# Altium footprint library FlexBMS_lib.pcblib: 25 footprints (part 1 of 2)
Each footprint in its own frame and in the unit in brackets; x right, y up, seen from the top. Pads: shape width x height; smd on the part's side, far side on the other; paste and mask are expansions set on the pad; w line width, h text height; cw(c..) or ccw(c..) is an arc to the next point about the centre after c.
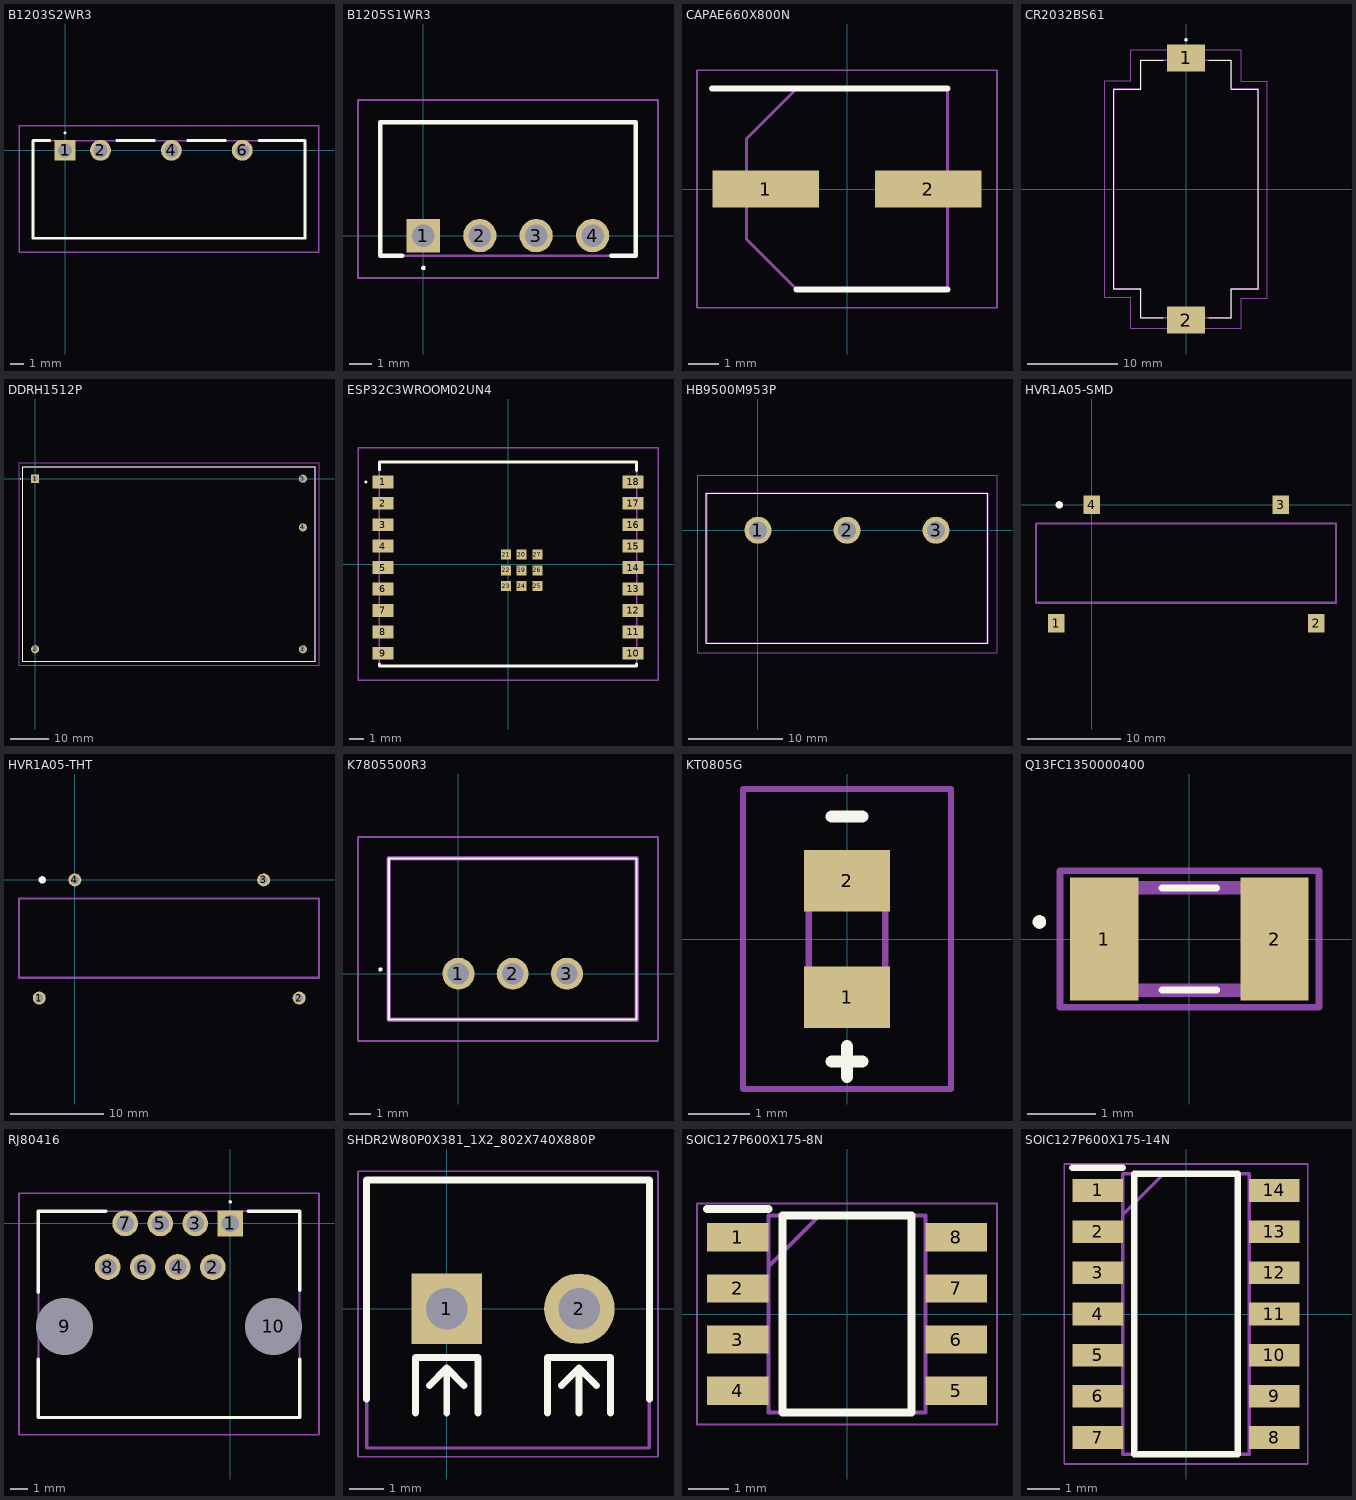
[diagram p0: the footprints below, top view; thin cyan lines are the x and y axes]

## B1203S2WR3 [mm]
pads (4):
  rect 1.5x1.5 hole 1: 1(0,0)
  round 1.5 hole 1: 2(2.54,0) 4(7.62,0) 6(12.7,0)
Top Overlay:
  lines w0.1: 0,1.2 cw(c0,1.25) 0,1.3 cw(c0,1.25) 0,1.2
  lines w0.2: -1.1,0.7 -2.3,0.7 -2.3,-6.3 17.2,-6.3 17.2,0.7 13.9,0.7 ; 3.7,0.7 6.4,0.7 ; 8.8,0.7 11.5,0.7
Mechanical 13:
  lines w0.1: -2.3,-6.3 -2.3,0.7 17.2,0.7 17.2,-6.3 -2.3,-6.3
Mechanical 15:
  lines w0.1: -3.3,-7.3 -3.3,1.75 18.2,1.75 18.2,-7.3 -3.3,-7.3
3D body "B1203S-2WR3.stp": height 10.35, standoff -5, extent -2.3,-6.3 17.2,0.7

## B1205S1WR3 [mm]
pads (4):
  rect 1.5x1.5 hole 1: 1(0,0)
  round 1.5 hole 1: 2(2.54,0) 3(5.08,0) 4(7.62,0)
Top Overlay:
  lines w0.1: 0,-1.5 ccw(c0,-1.45) 0,-1.4 ccw(c0,-1.45) 0,-1.5
  lines w0.2: -0.95,-0.9 -1.94,-0.9 -1.94,5.1 9.56,5.1 9.56,-0.9 8.45,-0.9
Mechanical 13:
  lines w0.1: -1.94,-0.9 9.56,-0.9 9.56,5.1 -1.94,5.1 -1.94,-0.9
Mechanical 15:
  lines w0.1: -2.94,-1.9 10.56,-1.9 10.56,6.1 -2.94,6.1 -2.94,-1.9
3D body "B1205S-1WR3.stp": height 10.35, standoff -5, extent -1.94,-0.9 9.56,5.1

## CAPAE660X800N [mm]
pads (2):
  rect 3.5x1.2 smd: 1(-2.67,0) 2(2.67,0)
Top Overlay:
  lines w0.2: -4.425,3.3 3.3,3.3 ; -1.65,-3.3 3.3,-3.3
Mechanical 13:
  lines w0.1: -3.3,-1.65 -3.3,1.65 -1.65,3.3 3.3,3.3 3.3,-3.3 -1.65,-3.3 -3.3,-1.65
Mechanical 15:
  lines w0.05: -4.925,-3.9 4.925,-3.9 4.925,3.9 -4.925,3.9 -4.925,-3.9
3D body "VEJ101M1ETR-0607.stp": height 8, standoff 0, extent -3.7,-3.4 3.7,3.4

## CR2032BS61 [mm]
pads (2):
  rect 4.2x3 smd: 1(0,14.5) 2(0,-14.5)
Top Overlay:
  lines w0.1: -2.54,-14.25 -5,-14.25 -5,-11.05 -5.08,-11.05 -8,-11.05 -8,11.05 -5,11.05 -5,14.25 -2.54,14.25 ; 2.54,-14.25 5,-14.25 5,-11.05 8,-11.05 8,11.05 5,11.05 5,14.25 2.54,14.25
  lines w0.2: 0,16.4 cw(c0,16.5) 0,16.6 cw(c0,16.5) 0,16.4
Mechanical 13:
  lines w0.2: -8,-11.05 -8,11.05 -5.08,11.05 -5,11.05 -5,14.25 5,14.25 5,11.05 8,11.05 8,-11.05 5,-11.05 5,-14.25 -5,-14.25 -5,-11.05 -8,-11.05
Mechanical 15:
  lines w0.1: -9,-12 -6.1,-12 -6.1,-15.4 5.5,-15.4 6.1,-15.4 6.1,-12.1 9,-12.1 9,11.9 6.1,11.9 6.1,15.4 5.9,15.4 -6.1,15.4 -6.1,12 -9,12 -9,-12
3D body "CR2032-BS-6-1.stp": height 5.5, standoff 0, extent -7.998,-15.653 8.002,15.647

## DDRH1512P [mm]
pads (5):
  rect 2.1x2.1 hole 1.4: 1(0,0)
  round 2.1 hole 1.4: 2(0,-44.45) 3(69.85,-44.45) 4(69.85,-12.7) 5(69.85,0)
Top Overlay:
  lines w0.1: -3.8,0 cw(c-3.75,0) -3.7,0 cw(c-3.75,0) -3.8,0
  lines w0.2: -3.175,-47.625 73.025,-47.625 73.025,3.175 -3.175,3.175 -3.175,-47.625
Mechanical 13:
  lines w0.1: -3.175,-47.625 73.025,-47.625 73.025,3.175 -3.175,3.175 -3.175,-47.625
Mechanical 15:
  lines w0.1: -4.175,-48.625 74.025,-48.625 74.025,4.175 -4.175,4.175 -4.175,-48.625
3D body "DDRH-15-12P.stp": height 25.13, standoff -5, extent -3.175,-47.625 73.025,3.175

## ESP32C3WROOM02UN4 [mm]
pads (27):
  rect 1.5x0.9 smd: 1(-8.75,5.75) 2(-8.75,4.25) 3(-8.75,2.75) 4(-8.75,1.25) 5(-8.75,-0.25) 6(-8.75,-1.75) 7(-8.75,-3.25) 8(-8.75,-4.75) 9(-8.75,-6.25) 10(8.75,-6.25) 11(8.75,-4.75) 12(8.75,-3.25) 13(8.75,-1.75) 14(8.75,-0.25) 15(8.75,1.25) 16(8.75,2.75) 17(8.75,4.25) 18(8.75,5.75)
  rect 0.7x0.7 smd: 19(0.96,-0.45) 20(0.96,0.65) 21(-0.14,0.65) 22(-0.14,-0.45) 23(-0.14,-1.55) 24(0.96,-1.55) 25(2.06,-1.55) 26(2.06,-0.45) 27(2.06,0.65)
Top Overlay:
  lines w0.1: -10,5.75 cw(c-9.95,5.75) -9.9,5.75 cw(c-9.95,5.75) -10,5.75
  lines w0.2: -9,-7 -9,-7.15 9,-7.15 9,-7 ; -9,6.6 -9,7.15 9,7.15 9,6.55
Mechanical 13:
  lines w0.1: -9,-7.15 -9,7.15 9,7.15 9,-7.15 -9,-7.15
Mechanical 15:
  lines w0.1: -10.5,-8.15 -10.5,8.15 10.5,8.15 10.5,-8.15 -10.5,-8.15
3D body "ESP32-C3-WROOM-02U-N4.stp": height 3.26, standoff 0, extent -9.005,-7.15 9.015,7.15

## HB9500M953P [mm]
pads (3):
  round 2.883 hole 1.92: 1(0,0) 2(9.5,0) 3(19,0)
Top Overlay:
  lines w0.1: -5.5,-12.05 24.5,-12.05 24.5,3.95 -5.5,3.95 -5.5,-12.05
Mechanical 13:
  lines w0.2: -5.5,-12.05 -5.5,3.95 24.5,3.95 24.5,-12.05 -5.5,-12.05
Mechanical 15:
  lines w0.1: -6.5,-13.05 25.5,-13.05 25.5,5.85 -6.5,5.85 -6.5,-13.05
3D body "HB9500M-9.5-3P.stp": height 13.3, standoff -5, extent -5.5,-12.05 24.5,3.95

## HVR1A05-SMD [mm]
pads (4):
  rect 1.8x2 smd: 1(-3.82,-12.7) 2(24.12,-12.7) 3(20.3,0) 4(0,0)
Top Overlay:
  circle w0.4: c-3.5,0 r0.2
Mechanical 1:
  lines w0.254: -6,-10.5 26.25,-10.5 26.25,-2 -6,-2 -6,-10.5
3D body: height 0.2, standoff 0, extent -0.82,-2.2 0.88,1.05
3D body: height 0.2, standoff 0, extent 19.48,-2.2 21.18,1.05
3D body: height 0.2, standoff 0, extent 23.24,-13.75 24.94,-10.5
3D body: height 0.2, standoff 0, extent -4.7,-13.75 -3,-10.5
3D body: height 8.8, standoff 0, extent -6,-10.5 26.25,-2

## HVR1A05-THT [mm]
pads (4):
  round 1.4 hole 0.85: 1(-3.82,-12.7) 2(24.12,-12.7) 3(20.3,0) 4(0,0)
Top Overlay:
  circle w0.4: c-3.5,0 r0.2
Mechanical 1:
  lines w0.254: -6,-10.5 26.25,-10.5 26.25,-2 -6,-2 -6,-10.5
3D body: height 5, standoff -2, extent -4.1,-13 -3.5,-12.4
3D body: height 8.8, standoff 0, extent -6,-10.5 26.25,-2
3D body: height 5, standoff -2, extent -0.28,-0.3 0.32,0.3
3D body: height 5, standoff -2, extent 20.02,-0.3 20.62,0.3
3D body: height 5, standoff -2, extent 23.84,-13 24.44,-12.4

## K7805500R3 [mm]
pads (3):
  round 1.5 hole 1: 1(0,0) 2(2.54,0) 3(5.08,0)
Top Overlay:
  lines w0.1: -3.7,0.2 ccw(c-3.65,0.2) -3.6,0.2 ccw(c-3.65,0.2) -3.7,0.2 ; -3.26,-2.15 -3.26,5.4 8.34,5.4 8.34,-2.15 -3.26,-2.15
Mechanical 13:
  lines w0.2: -3.26,-2.15 -3.26,5.4 8.34,5.4 8.34,-2.15 -3.26,-2.15
Mechanical 15:
  lines w0.1: -4.7,-3.15 -4.7,6.4 9.34,6.4 9.34,-3.15 -4.7,-3.15
3D body "K7805-500R3.stp": height 10.51, standoff -5, extent -3.26,-2.15 8.34,5.4

## KT0805G [mm]
pads (2):
  rect 1.4x1 smd: 1(0,-0.95) 2(0,0.95)
Top Overlay:
  lines w0.2: -0.25,-2 0.25,-2 ; -0.25,2 0.25,2 ; 0,-2.25 0,-1.75
Mechanical 13:
  lines w0.1: -0.625,-1 -0.625,1 0.625,1 0.625,-1 -0.625,-1
Mechanical 15:
  lines w0.1: -1.7,-2.45 -1.7,2.45 1.7,2.45 1.7,-2.45 -1.7,-2.45

## Q13FC1350000400 [mm]
pads (2):
  rect 1x1.8 smd: 1(-1.25,0) 2(1.25,0)
Top Overlay:
  lines w0.1: -0.4,-0.75 0.4,-0.75 ; -0.4,0.75 0.4,0.75 ; -2.2,0.2 ccw(c-2.2,0.25) -2.2,0.3 ccw(c-2.2,0.25) -2.2,0.2
Mechanical 13:
  lines w0.2: -1.6,-0.75 1.6,-0.75 1.6,0.75 -1.6,0.75 -1.6,-0.75
Mechanical 15:
  lines w0.1: -1.9,-1 1.9,-1 1.9,1 -1.9,1 -1.9,-1

## RJ80416 [mm]
pads (10):
  rect 1.5x1.5 hole 1: 1(0,0)
  round 1.5 hole 1: 2(-1.02,-2.54) 3(-2.04,0) 4(-3.06,-2.54) 5(-4.08,0) 6(-5.1,-2.54) 7(-6.12,0) 8(-7.14,-2.54)
  round 1.65 hole 3.3 unplated: 9(-9.65,-6) 10(2.51,-6)
Top Overlay:
  lines w0.1: 0,1.2 cw(c0,1.25) 0,1.3 cw(c0,1.25) 0,1.2
  lines w0.2: -11.17,-7.9 -11.17,-11.3 4.03,-11.3 4.03,-7.9 ; -11.17,-4 -11.17,0.7 -7.25,0.7 ; 1.03,0.7 4.03,0.7 4.03,-3.9
Mechanical 13:
  lines w0.1: -11.17,-11.3 -11.17,0.7 4.03,0.7 4.03,-11.3 -11.17,-11.3
Mechanical 15:
  lines w0.1: -12.3,-12.3 -12.3,1.75 5.16,1.75 5.16,-12.3 -12.3,-12.3
3D body "RJ-804-1-6.stp": height 11.8, standoff -5, extent -11.2,-11.3 4.06,0.7

## SHDR2W80P0X381_1X2_802X740X880P [mm]
pads (2):
  rect 2.025x2.025 hole 1.2: 1(0,0)
  round 2.025 hole 1.2: 2(3.81,0)
Top Overlay:
  lines w0.2: -2.3,-2.6 -2.3,3.7 5.82,3.7 5.82,-2.6 ; -0.9,-3 -0.9,-1.4 0.9,-1.4 0.9,-3 ; -0.5,-2.2 0,-1.7 ; 0,-3 0,-1.7 ; 0.5,-2.2 0,-1.7 ; 2.9,-3 2.9,-1.4 4.7,-1.4 4.7,-3 ; 3.3,-2.2 3.8,-1.7 ; 3.8,-3 3.8,-1.7 ; 4.3,-2.2 3.8,-1.7 ; 0,-1.7 0,-1.7 ; 0,-1.7 0,-1.7
Mechanical 13:
  lines w0.1: -2.3,-4 -2.3,3.7 5.82,3.7 5.82,-4 -2.3,-4
Mechanical 15:
  lines w0.05: -2.55,-4.25 6.07,-4.25 6.07,3.95 -2.55,3.95 -2.55,-4.25
3D body: height 8.6, standoff 0, extent -2.3,-4.047 5.82,3.7

## SOIC127P600X175-8N [mm]
pads (8):
  rect 1.525x0.7 smd: 1(-2.712,1.905) 2(-2.712,0.635) 3(-2.712,-0.635) 4(-2.712,-1.905) 5(2.712,-1.905) 6(2.712,-0.635) 7(2.712,0.635) 8(2.712,1.905)
Top Overlay:
  lines w0.2: -3.475,2.605 -1.95,2.605 ; -1.6,-2.45 1.6,-2.45 1.6,2.45 -1.6,2.45 -1.6,-2.45
Mechanical 13:
  lines w0.1: -1.95,1.18 -0.68,2.45 ; -1.95,-2.45 1.95,-2.45 1.95,2.45 -1.95,2.45 -1.95,-2.45
Mechanical 15:
  lines w0.05: -3.725,-2.75 3.725,-2.75 3.725,2.75 -3.725,2.75 -3.725,-2.75
3D body "SP3485EN-L_TR.stp": height 1.75, standoff 0, extent -3,-2.45 3,2.45

## SOIC127P600X175-14N [mm]
pads (14):
  rect 1.55x0.7 smd: 1(-2.725,3.81) 2(-2.725,2.54) 3(-2.725,1.27) 4(-2.725,0) 5(-2.725,-1.27) 6(-2.725,-2.54) 7(-2.725,-3.81) 8(2.725,-3.81) 9(2.725,-2.54) 10(2.725,-1.27) 11(2.725,0) 12(2.725,1.27) 13(2.725,2.54) 14(2.725,3.81)
Top Overlay:
  lines w0.2: -3.5,4.51 -1.95,4.51 ; -1.6,-4.325 1.6,-4.325 1.6,4.325 -1.6,4.325 -1.6,-4.325
Mechanical 13:
  lines w0.1: -1.95,3.055 -0.68,4.325 ; -1.95,-4.325 1.95,-4.325 1.95,4.325 -1.95,4.325 -1.95,-4.325
Mechanical 15:
  lines w0.05: -3.75,-4.625 3.75,-4.625 3.75,4.625 -3.75,4.625 -3.75,-4.625
3D body "TJA1448AT_0Z.stp": height 1.48, standoff -0.07, extent -3.031,-4.325 3.031,4.325